# Altium schematic symbol library TRS3122.SchLib: 1 symbol
Pins are listed as number, name and electrical type; pins without a type are passive.

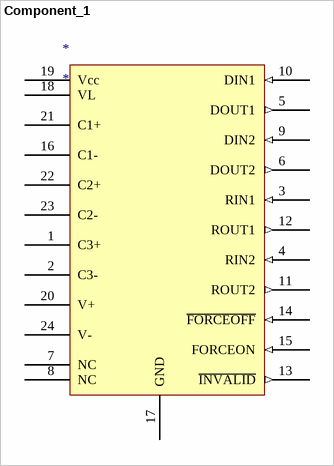
[diagram p0: symbol Component_1]

## Component_1
designator *
footprint QFN50P485X485X100_HS-25N (QFN, 24-Leads, Body 4.85x4.85mm, Pitch 0.50mm, Thermal Pad 2.70x2.70mm, IPC Medium Density)
pins: 1 C3+ "Positive Terminal of voltage-tripler charge-pump capacitor (not needed for VCC 3V or 5V", 2 C3- "Negative terminal of voltage-tripler charge pump capacitors (not needed for VCC 3V or 5V)", 3 RIN1 (in) "RS-232 receiver input", 4 RIN2 (in) "RS-232 receiver inputs", 5 DOUT1 (out) "RS-232 driver output", 6 DOUT2 (out) "RS-232 driver output", 7 NC "Factory pins. Can be NC or connected to GND", 8 NC "Factory pin. Can be NC or connected to GND", 9 DIN2 (in) "Driver Input", 10 DIN1 (in) "Driver input", 11 ROUT2 (out) "Receiver outputs; swing between 0 and VL", 12 ROUT1 (out) "Receiver output, swings between 0 and VL", 13 ~{INVALID} (out) "invalid ouput pin", 14 ~{FORCEOFF} (in) "Auto powerdown Control input (refer to Truth Table)", 15 FORCEON (in) "Auto Powerdown Control input ( refer to Truth table)", 16 C1- "(REQUIRED) Negative terminals of voltage-doubler charge pump capacitors", 17 GND "Ground", 18 VL "Logic level supply. All CMOS inputs (DIN) and outputs (ROUT) are referenced to this supply.", 19 Vcc "1.8V or 3V-5V power supply", 20 V+ "(REQUIRED) Positive charge pump storage capacitor", 21 C1+ "(REQUIRED) Positive terminals of voltage-doubler charge pump capacitors", 22 C2+ "(REQUIRED) Positive terminals of voltage-doubler charge pump capacitors", 23 C2- "(REQUIRED) Negative terminals of voltage-doubler charge pump capacitors", 24 V- "(REQUIRED) Negative charge pump storage capacitor"